# Altium schematic symbol library SS8050-G.SchLib: 1 symbol
Pins are listed as number, name and electrical type; pins without a type are passive.

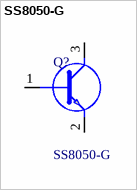
[diagram p0: symbol SS8050-G]

## SS8050-G
designator Q?
Bipolar Transistors - BJT NPN TRANSISTOR 1.5A 40V; Manufacturer_Name: Comchip Technology; Geometry.Height: 1.15mm; Mouser Part Number: 750-SS8050-G; Mouser Price/Stock: https://www.mouser.co.uk/ProductDetail/Comchip-Technology/SS8050-G?qs=LLUE9lz1YbcHg%252BWLMAtcrQ%3D%3D; Manufacturer_Part_Number: SS8050-G; Datasheet Link: https://datasheet.datasheetarchive.com/originals/distributors/DKDS-12/229454.pdf
footprint SOT95P240X115-3N
pins: 1 B, 2 E, 3 C